# Altium schematic symbol library KC2520B48.SchLib: 1 symbol
Pins are listed as number, name and electrical type; pins without a type are passive.

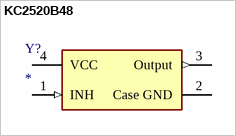
[diagram p0: symbol KC2520B48]

## KC2520B48
designator Y?
KC2520B48
footprint FP-KC2520B-MFG
pins: 1 INH (in), 2 Case GND (power), 3 Output (out), 4 VCC (power)